# EAGLE library part IS64WV1288DBLL-* (library memory-issi-asynsram)
128k x 8 high- speed CMOS static RAM 10ns access time 3.6V power supply
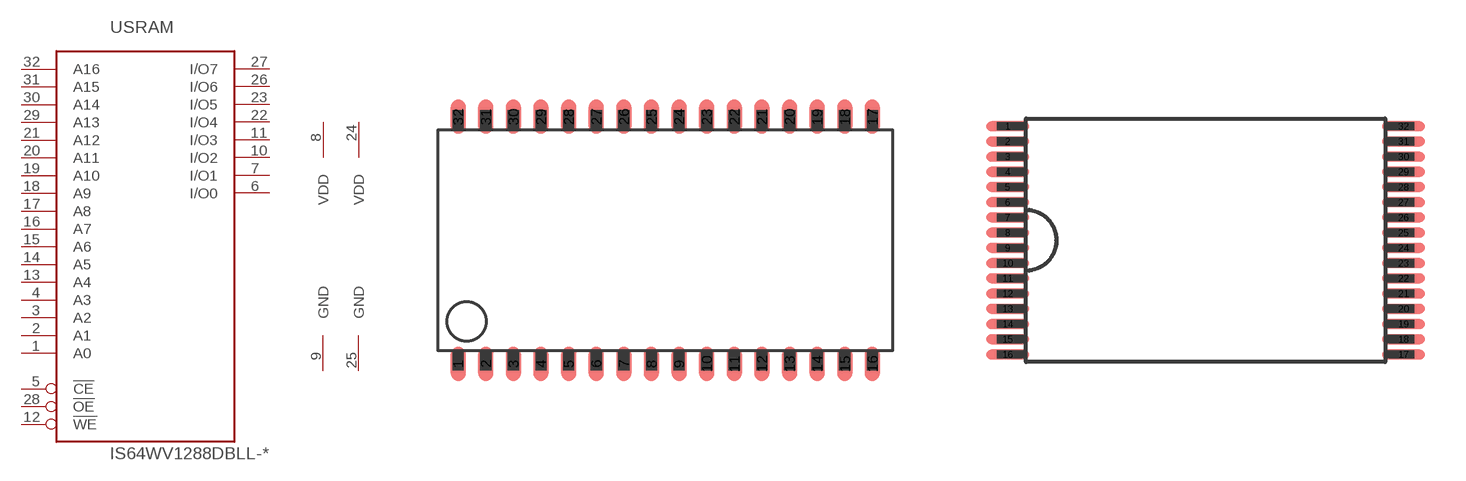
[diagram p23: symbol with the pads of TSOP-II-32; footprints TSOP-II-32, TSOP-I-32-8X13.4MM]

Designator prefix -; gates SRAM=128KX8_TYP1 PWR=PWR_VDD2_GND2

## IS64WV1288DBLL-10T  [TSOP-II-32]
1  SRAM:A0  in
2  SRAM:A1  in
3  SRAM:A2  in
4  SRAM:A3  in
5  SRAM:!CE  in
6  SRAM:I/O0  hiz
7  SRAM:I/O1  hiz
8  PWR:VDD  pwr
9  PWR:GND  pwr
10  SRAM:I/O2  hiz
11  SRAM:I/O3  hiz
12  SRAM:!WE  in
13  SRAM:A4  in
14  SRAM:A5  in
15  SRAM:A6  in
16  SRAM:A7  in
17  SRAM:A8  in
18  SRAM:A9  in
19  SRAM:A10  in
20  SRAM:A11  in
21  SRAM:A12  in
22  SRAM:I/O4  hiz
23  SRAM:I/O5  hiz
24  PWR:VDD  pwr
25  PWR:GND  pwr
26  SRAM:I/O6  hiz
27  SRAM:I/O7  hiz
28  SRAM:!OE  in
29  SRAM:A13  in
30  SRAM:A14  in
31  SRAM:A15  in
32  SRAM:A16  in

## IS64WV1288DBLL-10H  [TSOP-I-32-8X13.4MM]
Pads as for TSOP-II-32

## Footprint TSOP-II-32 (pad centres in mm)
TSOP-II-32 32-pin thin small-outline package, Typ II
smd 0.7 x 1.6: 1 -9.525,-5.68; 2 -8.255,-5.68; 3 -6.985,-5.68; 4 -5.715,-5.68; 5 -4.445,-5.68; 6 -3.175,-5.68; 7 -1.905,-5.68; 8 -0.635,-5.68; 9 0.635,-5.68; 10 1.905,-5.68; 11 3.175,-5.68; 12 4.445,-5.68; 13 5.715,-5.68; 14 6.985,-5.68; 15 8.255,-5.68; 16 9.525,-5.68; 17 9.525,5.68; 18 8.255,5.68; 19 6.985,5.68; 20 5.715,5.68; 21 4.445,5.68; 22 3.175,5.68; 23 1.905,5.68; 24 0.635,5.68; 25 -0.635,5.68; 26 -1.905,5.68; 27 -3.175,5.68; 28 -4.445,5.68; 29 -5.715,5.68; 30 -6.985,5.68; 31 -8.255,5.68; 32 -9.525,5.68

## Footprint TSOP-I-32-8X13.4MM (pad centres in mm)
TSOP-I-32 32-pin thin small-outline package, Typ I
smd 1.4 x 0.33: 1 -6.5,3.75; 2 -6.5,3.25; 3 -6.5,2.75; 4 -6.5,2.25; 5 -6.5,1.75; 6 -6.5,1.25; 7 -6.5,0.75; 8 -6.5,0.25; 9 -6.5,-0.25; 10 -6.5,-0.75; 11 -6.5,-1.25; 12 -6.5,-1.75; 13 -6.5,-2.25; 14 -6.5,-2.75; 15 -6.5,-3.25; 16 -6.5,-3.75; 17 6.5,-3.75; 18 6.5,-3.25; 19 6.5,-2.75; 20 6.5,-2.25; 21 6.5,-1.75; 22 6.5,-1.25; 23 6.5,-0.75; 24 6.5,-0.25; 25 6.5,0.25; 26 6.5,0.75; 27 6.5,1.25; 28 6.5,1.75; 29 6.5,2.25; 30 6.5,2.75; 31 6.5,3.25; 32 6.5,3.75